# Altium integrated library Capacitors - Ceramic - 0402.IntLib: 4569 symbols (part 98 of 100)
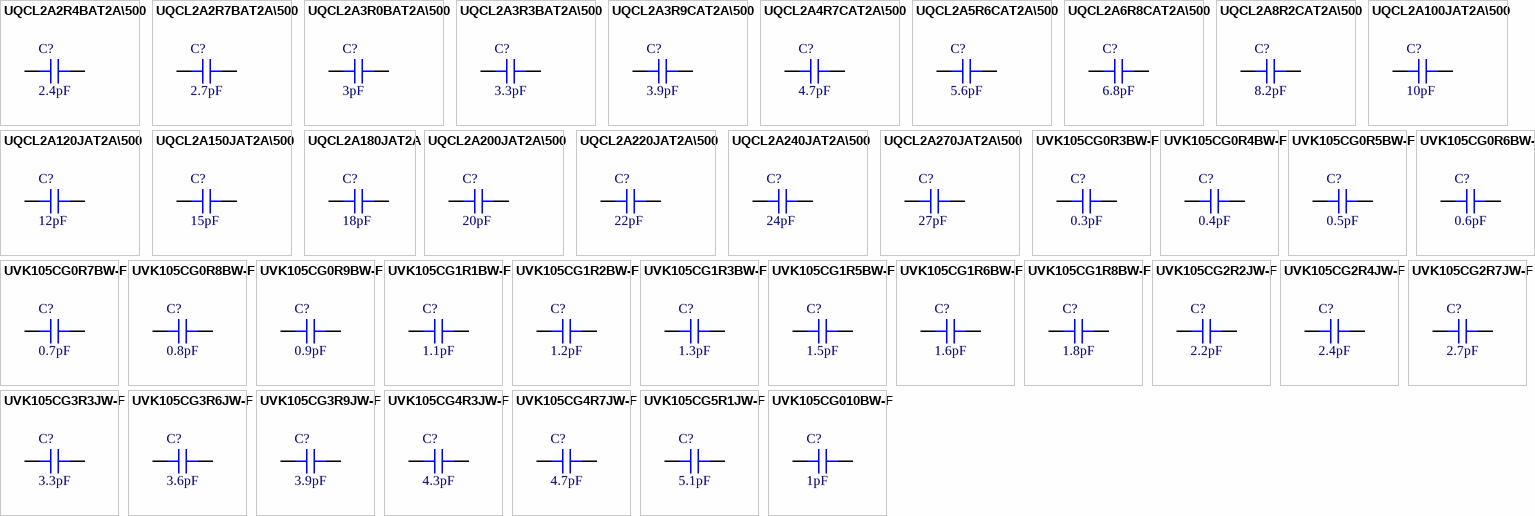
[diagram p211: symbols UQCL2A2R4BAT2A\500 to UVK105CG010BW-F]

## UQCL2A220JAT2A\500
designator C?, comment 22pF
CAP CER 22PF 200V 0402; Part Number: UQCL2A220JAT2A\500; Manufacturer: AVX Corporation; Temperature Coefficient: A; Tolerance: ±5%; Value: 22pF; Applications: RF, Microwave, High Frequency; Capacitance: 22pF; ComponentLink1Description: Datasheet; ComponentLink1URL: http://datasheets.avx.com/UQ-Series.pdf; ComponentLink2Description: DigiKey Link; ComponentLink2URL: http://digikey.com/product-detail/en/avx-corporation/UQCL2A220JAT2A-500/478-6423-1-ND/2512259; Device Package: 0402 (1005 Metric); Features: High Q, Low Loss; LastUpdated: 9/2/2020 1:02:06 AM; Lifecycle Status: Active; Minimum Order: 1; Mounting Type: Surface Mount, MLCC; Operating Temperature: -55°C ~ 125°C; Package / Case: 0402 (1005 Metric); Packaging: TapeAndReel; PartId: 9877; Part Status: Active; Price: 0.34; Series: UQ; Size / Dimension: 0.040" L x 0.020" W (1.02mm x 0.51mm); Supplier 1: DigiKey; Supplier Part Number 1: 478-6423-1-ND; Thickness (Max): 0.024" (0.60mm); Voltage - Rated: 200V
footprint CAP 0402_1005
pins: 1, 2

## UQCL2A240JAT2A\500
designator C?, comment 24pF
CAP CER 24PF 200V 0402; Part Number: UQCL2A240JAT2A\500; Manufacturer: AVX Corporation; Temperature Coefficient: A; Tolerance: ±5%; Value: 24pF; Applications: RF, Microwave, High Frequency; Capacitance: 24pF; ComponentLink1Description: Datasheet; ComponentLink1URL: http://datasheets.avx.com/UQ-Series.pdf; ComponentLink2Description: DigiKey Link; ComponentLink2URL: http://digikey.com/product-detail/en/avx-corporation/UQCL2A240JAT2A-500/478-6424-1-ND/2512260; Device Package: 0402 (1005 Metric); Features: High Q, Low Loss; LastUpdated: 9/2/2020 1:02:07 AM; Lifecycle Status: Active; Minimum Order: 1; Mounting Type: Surface Mount, MLCC; Operating Temperature: -55°C ~ 125°C; Package / Case: 0402 (1005 Metric); Packaging: TapeAndReel; PartId: 9496; Part Status: Active; Price: 0.34; Series: UQ; Size / Dimension: 0.040" L x 0.020" W (1.02mm x 0.51mm); Supplier 1: DigiKey; Supplier Part Number 1: 478-6424-1-ND; Thickness (Max): 0.024" (0.60mm); Voltage - Rated: 200V
footprint CAP 0402_1005
pins: 1, 2

## UQCL2A270JAT2A\500
designator C?, comment 27pF
CAP CER 27PF 200V 0402; Part Number: UQCL2A270JAT2A\500; Manufacturer: AVX Corporation; Temperature Coefficient: A; Tolerance: ±5%; Value: 27pF; Applications: RF, Microwave, High Frequency; Capacitance: 27pF; ComponentLink1Description: Datasheet; ComponentLink1URL: http://datasheets.avx.com/UQ-Series.pdf; ComponentLink2Description: DigiKey Link; ComponentLink2URL: http://digikey.com/product-detail/en/avx-corporation/UQCL2A270JAT2A-500/478-6425-1-ND/2512261; Device Package: 0402 (1005 Metric); Features: High Q, Low Loss; LastUpdated: 9/2/2020 1:02:14 AM; Lifecycle Status: Active; Minimum Order: 1; Mounting Type: Surface Mount, MLCC; Operating Temperature: -55°C ~ 125°C; Package / Case: 0402 (1005 Metric); Packaging: TapeAndReel; PartId: 6619; Part Status: Active; Price: 0.34; Series: UQ; Size / Dimension: 0.040" L x 0.020" W (1.02mm x 0.51mm); Supplier 1: DigiKey; Supplier Part Number 1: 478-6425-1-ND; Thickness (Max): 0.024" (0.60mm); Voltage - Rated: 200V
footprint CAP 0402_1005
pins: 1, 2

## UVK105CG0R3BW-F
designator C?, comment 0.3pF
CAP CER 0.30PF 50V C0G 0402; Part Number: UVK105CG0R3BW-F; Manufacturer: Taiyo Yuden; Temperature Coefficient: C0G, NP0; Tolerance: ±0.1pF; Value: 0.3pF; Applications: RF, Microwave, High Frequency; Capacitance: 0.3pF; ComponentLink1Description: Datasheet; ComponentLink1URL: https://ds.yuden.co.jp/TYCOMPAS/ut/detail?pn=UVK105CG0R3BW-F &u=M; ComponentLink2Description: DigiKey Link; ComponentLink2URL: http://digikey.com/product-detail/en/taiyo-yuden/UVK105CG0R3BW-F/587-5111-1-ND/6576530; Device Package: 0402 (1005 Metric); Features: High Q, Low Loss; LastUpdated: 9/2/2020 1:02:25 AM; Lifecycle Status: Active; Minimum Order: 1; Mounting Type: Surface Mount, MLCC; Operating Temperature: -55°C ~ 125°C; Package / Case: 0402 (1005 Metric); Packaging: TapeAndReel; PartId: 1829; Part Status: Active; Price: 0.04; Series: V; Size / Dimension: 0.039" L x 0.020" W (1.00mm x 0.50mm); Supplier 1: DigiKey; Supplier Part Number 1: 587-5111-1-ND; Thickness (Max): 0.022" (0.55mm); Voltage - Rated: 50V
footprint CAP 0402_1005
pins: 1, 2

## UVK105CG0R4BW-F
designator C?, comment 0.4pF
CAP CER 0.40PF 50V C0G 0402; Part Number: UVK105CG0R4BW-F; Manufacturer: Taiyo Yuden; Temperature Coefficient: C0G, NP0; Tolerance: ±0.1pF; Value: 0.4pF; Applications: RF, Microwave, High Frequency; Capacitance: 0.4pF; ComponentLink1Description: Datasheet; ComponentLink1URL: https://ds.yuden.co.jp/TYCOMPAS/ut/detail?pn=UVK105CG0R4BW-F &u=M; ComponentLink2Description: DigiKey Link; ComponentLink2URL: http://digikey.com/product-detail/en/taiyo-yuden/UVK105CG0R4BW-F/587-5112-1-ND/6576531; Device Package: 0402 (1005 Metric); Features: High Q, Low Loss; LastUpdated: 9/2/2020 1:02:25 AM; Lifecycle Status: Active; Minimum Order: 1; Mounting Type: Surface Mount, MLCC; Operating Temperature: -55°C ~ 125°C; Package / Case: 0402 (1005 Metric); Packaging: TapeAndReel; PartId: 1830; Part Status: Active; Price: 0.04; Series: V; Size / Dimension: 0.039" L x 0.020" W (1.00mm x 0.50mm); Supplier 1: DigiKey; Supplier Part Number 1: 587-5112-1-ND; Thickness (Max): 0.022" (0.55mm); Voltage - Rated: 50V
footprint CAP 0402_1005
pins: 1, 2

## UVK105CG0R5BW-F
designator C?, comment 0.5pF
CAP CER 0.50PF 50V C0G 0402; Part Number: UVK105CG0R5BW-F; Manufacturer: Taiyo Yuden; Temperature Coefficient: C0G, NP0; Tolerance: ±0.1pF; Value: 0.5pF; Applications: RF, Microwave, High Frequency; Capacitance: 0.5pF; ComponentLink1Description: Datasheet; ComponentLink1URL: https://ds.yuden.co.jp/TYCOMPAS/ut/detail?pn=UVK105CG0R5BW-F &u=M; ComponentLink2Description: DigiKey Link; ComponentLink2URL: http://digikey.com/product-detail/en/taiyo-yuden/UVK105CG0R5BW-F/587-5113-1-ND/6576532; Device Package: 0402 (1005 Metric); Features: High Q, Low Loss; LastUpdated: 9/2/2020 1:02:25 AM; Lifecycle Status: Active; Minimum Order: 1; Mounting Type: Surface Mount, MLCC; Operating Temperature: -55°C ~ 125°C; Package / Case: 0402 (1005 Metric); Packaging: TapeAndReel; PartId: 1841; Part Status: Active; Price: 0.04; Series: V; Size / Dimension: 0.039" L x 0.020" W (1.00mm x 0.50mm); Supplier 1: DigiKey; Supplier Part Number 1: 587-5113-1-ND; Thickness (Max): 0.022" (0.55mm); Voltage - Rated: 50V
footprint CAP 0402_1005
pins: 1, 2

## UVK105CG0R6BW-F
designator C?, comment 0.6pF
CAP CER 0.60PF 50V C0G 0402; Part Number: UVK105CG0R6BW-F; Manufacturer: Taiyo Yuden; Temperature Coefficient: C0G, NP0; Tolerance: ±0.1pF; Value: 0.6pF; Applications: RF, Microwave, High Frequency; Capacitance: 0.6pF; ComponentLink1Description: Datasheet; ComponentLink1URL: https://ds.yuden.co.jp/TYCOMPAS/ut/detail?pn=UVK105CG0R6BW-F &u=M; ComponentLink2Description: DigiKey Link; ComponentLink2URL: http://digikey.com/product-detail/en/taiyo-yuden/UVK105CG0R6BW-F/587-5114-1-ND/6576533; Device Package: 0402 (1005 Metric); Features: High Q, Low Loss; LastUpdated: 9/2/2020 1:02:25 AM; Lifecycle Status: Active; Minimum Order: 1; Mounting Type: Surface Mount, MLCC; Operating Temperature: -55°C ~ 125°C; Package / Case: 0402 (1005 Metric); Packaging: TapeAndReel; PartId: 1831; Part Status: Active; Price: 0.04; Series: V; Size / Dimension: 0.039" L x 0.020" W (1.00mm x 0.50mm); Supplier 1: DigiKey; Supplier Part Number 1: 587-5114-1-ND; Thickness (Max): 0.022" (0.55mm); Voltage - Rated: 50V
footprint CAP 0402_1005
pins: 1, 2

## UVK105CG0R7BW-F
designator C?, comment 0.7pF
CAP CER 0.70PF 50V C0G 0402; Part Number: UVK105CG0R7BW-F; Manufacturer: Taiyo Yuden; Temperature Coefficient: C0G, NP0; Tolerance: ±0.1pF; Value: 0.7pF; Applications: RF, Microwave, High Frequency; Capacitance: 0.7pF; ComponentLink1Description: Datasheet; ComponentLink1URL: https://ds.yuden.co.jp/TYCOMPAS/ut/detail?pn=UVK105CG0R7BW-F &u=M; ComponentLink2Description: DigiKey Link; ComponentLink2URL: http://digikey.com/product-detail/en/taiyo-yuden/UVK105CG0R7BW-F/587-5115-1-ND/6576534; Device Package: 0402 (1005 Metric); Features: High Q, Low Loss; LastUpdated: 9/2/2020 1:02:25 AM; Lifecycle Status: Active; Minimum Order: 1; Mounting Type: Surface Mount, MLCC; Operating Temperature: -55°C ~ 125°C; Package / Case: 0402 (1005 Metric); Packaging: TapeAndReel; PartId: 1832; Part Status: Active; Price: 0.04; Series: V; Size / Dimension: 0.039" L x 0.020" W (1.00mm x 0.50mm); Supplier 1: DigiKey; Supplier Part Number 1: 587-5115-1-ND; Thickness (Max): 0.022" (0.55mm); Voltage - Rated: 50V
footprint CAP 0402_1005
pins: 1, 2

## UVK105CG0R8BW-F
designator C?, comment 0.8pF
CAP CER 0.80PF 50V C0G 0402; Part Number: UVK105CG0R8BW-F; Manufacturer: Taiyo Yuden; Temperature Coefficient: C0G, NP0; Tolerance: ±0.1pF; Value: 0.8pF; Applications: RF, Microwave, High Frequency; Capacitance: 0.8pF; ComponentLink1Description: Datasheet; ComponentLink1URL: https://ds.yuden.co.jp/TYCOMPAS/ut/detail?pn=UVK105CG0R8BW-F &u=M; ComponentLink2Description: DigiKey Link; ComponentLink2URL: http://digikey.com/product-detail/en/taiyo-yuden/UVK105CG0R8BW-F/587-5116-1-ND/6576535; Device Package: 0402 (1005 Metric); Features: High Q, Low Loss; LastUpdated: 9/2/2020 1:02:25 AM; Lifecycle Status: Active; Minimum Order: 1; Mounting Type: Surface Mount, MLCC; Operating Temperature: -55°C ~ 125°C; Package / Case: 0402 (1005 Metric); Packaging: TapeAndReel; PartId: 1842; Part Status: Active; Price: 0.04; Series: V; Size / Dimension: 0.039" L x 0.020" W (1.00mm x 0.50mm); Supplier 1: DigiKey; Supplier Part Number 1: 587-5116-1-ND; Thickness (Max): 0.022" (0.55mm); Voltage - Rated: 50V
footprint CAP 0402_1005
pins: 1, 2

## UVK105CG0R9BW-F
designator C?, comment 0.9pF
CAP CER 0.90PF 50V C0G 0402; Part Number: UVK105CG0R9BW-F; Manufacturer: Taiyo Yuden; Temperature Coefficient: C0G, NP0; Tolerance: ±0.1pF; Value: 0.9pF; Applications: RF, Microwave, High Frequency; Capacitance: 0.9pF; ComponentLink1Description: Datasheet; ComponentLink1URL: https://ds.yuden.co.jp/TYCOMPAS/ut/detail?pn=UVK105CG0R9BW-F &u=M; ComponentLink2Description: DigiKey Link; ComponentLink2URL: http://digikey.com/product-detail/en/taiyo-yuden/UVK105CG0R9BW-F/587-5117-1-ND/6576536; Device Package: 0402 (1005 Metric); Features: High Q, Low Loss; LastUpdated: 9/2/2020 1:02:25 AM; Lifecycle Status: Active; Minimum Order: 1; Mounting Type: Surface Mount, MLCC; Operating Temperature: -55°C ~ 125°C; Package / Case: 0402 (1005 Metric); Packaging: TapeAndReel; PartId: 1833; Part Status: Active; Price: 0.04; Series: V; Size / Dimension: 0.039" L x 0.020" W (1.00mm x 0.50mm); Supplier 1: DigiKey; Supplier Part Number 1: 587-5117-1-ND; Thickness (Max): 0.022" (0.55mm); Voltage - Rated: 50V
footprint CAP 0402_1005
pins: 1, 2

## UVK105CG1R1BW-F
designator C?, comment 1.1pF
CAP CER 1.1PF 50V C0G 0402; Part Number: UVK105CG1R1BW-F; Manufacturer: Taiyo Yuden; Temperature Coefficient: C0G, NP0; Tolerance: ±0.1pF; Value: 1.1pF; Applications: RF, Microwave, High Frequency; Capacitance: 1.1pF; ComponentLink1Description: Datasheet; ComponentLink1URL: https://ds.yuden.co.jp/TYCOMPAS/ut/detail?pn=UVK105CG1R1BW-F &u=M; ComponentLink2Description: DigiKey Link; ComponentLink2URL: http://digikey.com/product-detail/en/taiyo-yuden/UVK105CG1R1BW-F/587-5119-1-ND/6576538; Device Package: 0402 (1005 Metric); Features: High Q, Low Loss; LastUpdated: 9/2/2020 1:02:25 AM; Lifecycle Status: Active; Minimum Order: 1; Mounting Type: Surface Mount, MLCC; Operating Temperature: -55°C ~ 125°C; Package / Case: 0402 (1005 Metric); Packaging: TapeAndReel; PartId: 1843; Part Status: Active; Price: 0.04; Series: V; Size / Dimension: 0.039" L x 0.020" W (1.00mm x 0.50mm); Supplier 1: DigiKey; Supplier Part Number 1: 587-5119-1-ND; Thickness (Max): 0.022" (0.55mm); Voltage - Rated: 50V
footprint CAP 0402_1005
pins: 1, 2

## UVK105CG1R2BW-F
designator C?, comment 1.2pF
CAP CER 1.2PF 50V C0G 0402; Part Number: UVK105CG1R2BW-F; Manufacturer: Taiyo Yuden; Temperature Coefficient: C0G, NP0; Tolerance: ±0.1pF; Value: 1.2pF; Applications: RF, Microwave, High Frequency; Capacitance: 1.2pF; ComponentLink1Description: Datasheet; ComponentLink1URL: https://ds.yuden.co.jp/TYCOMPAS/ut/detail?pn=UVK105CG1R2BW-F &u=M; ComponentLink2Description: DigiKey Link; ComponentLink2URL: http://digikey.com/product-detail/en/taiyo-yuden/UVK105CG1R2BW-F/587-5120-1-ND/6576539; Device Package: 0402 (1005 Metric); Features: High Q, Low Loss; LastUpdated: 9/2/2020 1:02:22 AM; Lifecycle Status: Active; Minimum Order: 1; Mounting Type: Surface Mount, MLCC; Operating Temperature: -55°C ~ 125°C; Package / Case: 0402 (1005 Metric); Packaging: TapeAndReel; PartId: 2416; Part Status: Active; Price: 0.04; Series: V; Size / Dimension: 0.039" L x 0.020" W (1.00mm x 0.50mm); Supplier 1: DigiKey; Supplier Part Number 1: 587-5120-1-ND; Thickness (Max): 0.022" (0.55mm); Voltage - Rated: 50V
footprint CAP 0402_1005
pins: 1, 2

## UVK105CG1R3BW-F
designator C?, comment 1.3pF
CAP CER 1.3PF 50V C0G 0402; Part Number: UVK105CG1R3BW-F; Manufacturer: Taiyo Yuden; Temperature Coefficient: C0G, NP0; Tolerance: ±0.1pF; Value: 1.3pF; Applications: RF, Microwave, High Frequency; Capacitance: 1.3pF; ComponentLink1Description: Datasheet; ComponentLink1URL: https://ds.yuden.co.jp/TYCOMPAS/ut/detail?pn=UVK105CG1R3BW-F &u=M; ComponentLink2Description: DigiKey Link; ComponentLink2URL: http://digikey.com/product-detail/en/taiyo-yuden/UVK105CG1R3BW-F/587-5121-1-ND/6576540; Device Package: 0402 (1005 Metric); Features: High Q, Low Loss; LastUpdated: 9/2/2020 1:02:25 AM; Lifecycle Status: Active; Minimum Order: 1; Mounting Type: Surface Mount, MLCC; Operating Temperature: -55°C ~ 125°C; Package / Case: 0402 (1005 Metric); Packaging: TapeAndReel; PartId: 1834; Part Status: Active; Price: 0.04; Series: V; Size / Dimension: 0.039" L x 0.020" W (1.00mm x 0.50mm); Supplier 1: DigiKey; Supplier Part Number 1: 587-5121-1-ND; Thickness (Max): 0.022" (0.55mm); Voltage - Rated: 50V
footprint CAP 0402_1005
pins: 1, 2

## UVK105CG1R5BW-F
designator C?, comment 1.5pF
CAP CER 1.5PF 50V C0G 0402; Part Number: UVK105CG1R5BW-F; Manufacturer: Taiyo Yuden; Temperature Coefficient: C0G, NP0; Tolerance: ±0.1pF; Value: 1.5pF; Applications: RF, Microwave, High Frequency; Capacitance: 1.5pF; ComponentLink1Description: Datasheet; ComponentLink1URL: https://ds.yuden.co.jp/TYCOMPAS/ut/detail?pn=UVK105CG1R5BW-F &u=M; ComponentLink2Description: DigiKey Link; ComponentLink2URL: http://digikey.com/product-detail/en/taiyo-yuden/UVK105CG1R5BW-F/587-5122-1-ND/6576541; Device Package: 0402 (1005 Metric); Features: High Q, Low Loss; LastUpdated: 9/2/2020 1:02:22 AM; Lifecycle Status: Active; Minimum Order: 1; Mounting Type: Surface Mount, MLCC; Operating Temperature: -55°C ~ 125°C; Package / Case: 0402 (1005 Metric); Packaging: TapeAndReel; PartId: 2408; Part Status: Active; Price: 0.04; Series: V; Size / Dimension: 0.039" L x 0.020" W (1.00mm x 0.50mm); Supplier 1: DigiKey; Supplier Part Number 1: 587-5122-1-ND; Thickness (Max): 0.022" (0.55mm); Voltage - Rated: 50V
footprint CAP 0402_1005
pins: 1, 2

## UVK105CG1R6BW-F
designator C?, comment 1.6pF
CAP CER 1.6PF 50V C0G 0402; Part Number: UVK105CG1R6BW-F; Manufacturer: Taiyo Yuden; Temperature Coefficient: C0G, NP0; Tolerance: ±0.1pF; Value: 1.6pF; Applications: RF, Microwave, High Frequency; Capacitance: 1.6pF; ComponentLink1Description: Datasheet; ComponentLink1URL: https://ds.yuden.co.jp/TYCOMPAS/ut/detail?pn=UVK105CG1R6BW-F &u=M; ComponentLink2Description: DigiKey Link; ComponentLink2URL: http://digikey.com/product-detail/en/taiyo-yuden/UVK105CG1R6BW-F/587-5123-1-ND/6576542; Device Package: 0402 (1005 Metric); Features: High Q, Low Loss; LastUpdated: 9/2/2020 1:02:25 AM; Lifecycle Status: Active; Minimum Order: 1; Mounting Type: Surface Mount, MLCC; Operating Temperature: -55°C ~ 125°C; Package / Case: 0402 (1005 Metric); Packaging: TapeAndReel; PartId: 1835; Part Status: Active; Price: 0.04; Series: V; Size / Dimension: 0.039" L x 0.020" W (1.00mm x 0.50mm); Supplier 1: DigiKey; Supplier Part Number 1: 587-5123-1-ND; Thickness (Max): 0.022" (0.55mm); Voltage - Rated: 50V
footprint CAP 0402_1005
pins: 1, 2

## UVK105CG1R8BW-F
designator C?, comment 1.8pF
CAP CER 1.8PF 50V C0G 0402; Part Number: UVK105CG1R8BW-F; Manufacturer: Taiyo Yuden; Temperature Coefficient: C0G, NP0; Tolerance: ±0.1pF; Value: 1.8pF; Applications: RF, Microwave, High Frequency; Capacitance: 1.8pF; ComponentLink1Description: Datasheet; ComponentLink1URL: https://ds.yuden.co.jp/TYCOMPAS/ut/detail?pn=UVK105CG1R8BW-F &u=M; ComponentLink2Description: DigiKey Link; ComponentLink2URL: http://digikey.com/product-detail/en/taiyo-yuden/UVK105CG1R8BW-F/587-5124-1-ND/6576543; Device Package: 0402 (1005 Metric); Features: High Q, Low Loss; LastUpdated: 9/2/2020 1:02:25 AM; Lifecycle Status: Active; Minimum Order: 1; Mounting Type: Surface Mount, MLCC; Operating Temperature: -55°C ~ 125°C; Package / Case: 0402 (1005 Metric); Packaging: TapeAndReel; PartId: 1836; Part Status: Active; Price: 0.04; Series: V; Size / Dimension: 0.039" L x 0.020" W (1.00mm x 0.50mm); Supplier 1: DigiKey; Supplier Part Number 1: 587-5124-1-ND; Thickness (Max): 0.022" (0.55mm); Voltage - Rated: 50V
footprint CAP 0402_1005
pins: 1, 2

## UVK105CG2R2JW-F
designator C?, comment 2.2pF
CAP CER 2.2PF 50V C0G 0402; Part Number: UVK105CG2R2JW-F; Manufacturer: Taiyo Yuden; Temperature Coefficient: C0G, NP0; Tolerance: ±5%; Value: 2.2pF; Applications: RF, Microwave, High Frequency; Capacitance: 2.2pF; ComponentLink1Description: Datasheet; ComponentLink1URL: https://ds.yuden.co.jp/TYCOMPAS/ut/detail?pn=UVK105CG2R2JW-F &u=M; ComponentLink2Description: DigiKey Link; ComponentLink2URL: http://digikey.com/product-detail/en/taiyo-yuden/UVK105CG2R2JW-F/587-5126-1-ND/6576545; Device Package: 0402 (1005 Metric); Features: High Q, Low Loss; LastUpdated: 9/2/2020 1:02:19 AM; Lifecycle Status: Active; Minimum Order: 1; Mounting Type: Surface Mount, MLCC; Operating Temperature: -55°C ~ 125°C; Package / Case: 0402 (1005 Metric); Packaging: TapeAndReel; PartId: 4277; Part Status: Active; Price: 0.04; Series: V; Size / Dimension: 0.039" L x 0.020" W (1.00mm x 0.50mm); Supplier 1: DigiKey; Supplier Part Number 1: 587-5126-1-ND; Thickness (Max): 0.022" (0.55mm); Voltage - Rated: 50V
footprint CAP 0402_1005
pins: 1, 2

## UVK105CG2R4JW-F
designator C?, comment 2.4pF
CAP CER 2.4PF 50V C0G 0402; Part Number: UVK105CG2R4JW-F; Manufacturer: Taiyo Yuden; Temperature Coefficient: C0G, NP0; Tolerance: ±5%; Value: 2.4pF; Applications: RF, Microwave, High Frequency; Capacitance: 2.4pF; ComponentLink1Description: Datasheet; ComponentLink1URL: https://ds.yuden.co.jp/TYCOMPAS/ut/detail?pn=UVK105CG2R4JW-F &u=M; ComponentLink2Description: DigiKey Link; ComponentLink2URL: http://digikey.com/product-detail/en/taiyo-yuden/UVK105CG2R4JW-F/587-5127-1-ND/6576546; Device Package: 0402 (1005 Metric); Features: High Q, Low Loss; LastUpdated: 9/2/2020 1:02:25 AM; Lifecycle Status: Active; Minimum Order: 1; Mounting Type: Surface Mount, MLCC; Operating Temperature: -55°C ~ 125°C; Package / Case: 0402 (1005 Metric); Packaging: TapeAndReel; PartId: 1827; Part Status: Active; Price: 0.04; Series: V; Size / Dimension: 0.039" L x 0.020" W (1.00mm x 0.50mm); Supplier 1: DigiKey; Supplier Part Number 1: 587-5127-1-ND; Thickness (Max): 0.022" (0.55mm); Voltage - Rated: 50V
footprint CAP 0402_1005
pins: 1, 2

## UVK105CG2R7JW-F
designator C?, comment 2.7pF
CAP CER 2.7PF 50V C0G 0402; Part Number: UVK105CG2R7JW-F; Manufacturer: Taiyo Yuden; Temperature Coefficient: C0G, NP0; Tolerance: ±5%; Value: 2.7pF; Applications: RF, Microwave, High Frequency; Capacitance: 2.7pF; ComponentLink1Description: Datasheet; ComponentLink1URL: https://ds.yuden.co.jp/TYCOMPAS/ut/detail?pn=UVK105CG2R7JW-F &u=M; ComponentLink2Description: DigiKey Link; ComponentLink2URL: http://digikey.com/product-detail/en/taiyo-yuden/UVK105CG2R7JW-F/587-5128-1-ND/6576547; Device Package: 0402 (1005 Metric); Features: High Q, Low Loss; LastUpdated: 9/2/2020 1:02:25 AM; Lifecycle Status: Active; Minimum Order: 1; Mounting Type: Surface Mount, MLCC; Operating Temperature: -55°C ~ 125°C; Package / Case: 0402 (1005 Metric); Packaging: TapeAndReel; PartId: 1826; Part Status: Active; Price: 0.04; Series: V; Size / Dimension: 0.039" L x 0.020" W (1.00mm x 0.50mm); Supplier 1: DigiKey; Supplier Part Number 1: 587-5128-1-ND; Thickness (Max): 0.022" (0.55mm); Voltage - Rated: 50V
footprint CAP 0402_1005
pins: 1, 2

## UVK105CG3R3JW-F
designator C?, comment 3.3pF
CAP CER 3.3PF 50V C0G 0402; Part Number: UVK105CG3R3JW-F; Manufacturer: Taiyo Yuden; Temperature Coefficient: C0G, NP0; Tolerance: ±5%; Value: 3.3pF; Applications: RF, Microwave, High Frequency; Capacitance: 3.3pF; ComponentLink1Description: Datasheet; ComponentLink1URL: https://ds.yuden.co.jp/TYCOMPAS/ut/detail?pn=UVK105CG3R3JW-F &u=M; ComponentLink2Description: DigiKey Link; ComponentLink2URL: http://digikey.com/product-detail/en/taiyo-yuden/UVK105CG3R3JW-F/587-5130-1-ND/6576549; Device Package: 0402 (1005 Metric); Features: High Q, Low Loss; LastUpdated: 9/2/2020 1:02:25 AM; Lifecycle Status: Active; Minimum Order: 1; Mounting Type: Surface Mount, MLCC; Operating Temperature: -55°C ~ 125°C; Package / Case: 0402 (1005 Metric); Packaging: TapeAndReel; PartId: 1839; Part Status: Active; Price: 0.04; Series: V; Size / Dimension: 0.039" L x 0.020" W (1.00mm x 0.50mm); Supplier 1: DigiKey; Supplier Part Number 1: 587-5130-1-ND; Thickness (Max): 0.022" (0.55mm); Voltage - Rated: 50V
footprint CAP 0402_1005
pins: 1, 2

## UVK105CG3R6JW-F
designator C?, comment 3.6pF
CAP CER 3.6PF 50V C0G 0402; Part Number: UVK105CG3R6JW-F; Manufacturer: Taiyo Yuden; Temperature Coefficient: C0G, NP0; Tolerance: ±5%; Value: 3.6pF; Applications: RF, Microwave, High Frequency; Capacitance: 3.6pF; ComponentLink1Description: Datasheet; ComponentLink1URL: https://ds.yuden.co.jp/TYCOMPAS/ut/detail?pn=UVK105CG3R6JW-F &u=M; ComponentLink2Description: DigiKey Link; ComponentLink2URL: http://digikey.com/product-detail/en/taiyo-yuden/UVK105CG3R6JW-F/587-5131-1-ND/6576550; Device Package: 0402 (1005 Metric); Features: High Q, Low Loss; LastUpdated: 9/2/2020 1:02:25 AM; Lifecycle Status: Active; Minimum Order: 1; Mounting Type: Surface Mount, MLCC; Operating Temperature: -55°C ~ 125°C; Package / Case: 0402 (1005 Metric); Packaging: TapeAndReel; PartId: 1840; Part Status: Active; Price: 0.04; Series: V; Size / Dimension: 0.039" L x 0.020" W (1.00mm x 0.50mm); Supplier 1: DigiKey; Supplier Part Number 1: 587-5131-1-ND; Thickness (Max): 0.022" (0.55mm); Voltage - Rated: 50V
footprint CAP 0402_1005
pins: 1, 2

## UVK105CG3R9JW-F
designator C?, comment 3.9pF
CAP CER 3.9PF 50V C0G 0402; Part Number: UVK105CG3R9JW-F; Manufacturer: Taiyo Yuden; Temperature Coefficient: C0G, NP0; Tolerance: ±5%; Value: 3.9pF; Applications: RF, Microwave, High Frequency; Capacitance: 3.9pF; ComponentLink1Description: Datasheet; ComponentLink1URL: https://ds.yuden.co.jp/TYCOMPAS/ut/detail?pn=UVK105CG3R9JW-F &u=M; ComponentLink2Description: DigiKey Link; ComponentLink2URL: http://digikey.com/product-detail/en/taiyo-yuden/UVK105CG3R9JW-F/587-5132-1-ND/6576551; Device Package: 0402 (1005 Metric); Features: High Q, Low Loss; LastUpdated: 9/2/2020 1:02:25 AM; Lifecycle Status: Active; Minimum Order: 1; Mounting Type: Surface Mount, MLCC; Operating Temperature: -55°C ~ 125°C; Package / Case: 0402 (1005 Metric); Packaging: TapeAndReel; PartId: 1828; Part Status: Active; Price: 0.04; Series: V; Size / Dimension: 0.039" L x 0.020" W (1.00mm x 0.50mm); Supplier 1: DigiKey; Supplier Part Number 1: 587-5132-1-ND; Thickness (Max): 0.022" (0.55mm); Voltage - Rated: 50V
footprint CAP 0402_1005
pins: 1, 2

## UVK105CG4R3JW-F
designator C?, comment 4.3pF
CAP CER 4.3PF 50V C0G 0402; Part Number: UVK105CG4R3JW-F; Manufacturer: Taiyo Yuden; Temperature Coefficient: C0G, NP0; Tolerance: ±5%; Value: 4.3pF; Applications: RF, Microwave, High Frequency; Capacitance: 4.3pF; ComponentLink1Description: Datasheet; ComponentLink1URL: https://ds.yuden.co.jp/TYCOMPAS/ut/detail?pn=UVK105CG4R3JW-F &u=M; ComponentLink2Description: DigiKey Link; ComponentLink2URL: http://digikey.com/product-detail/en/taiyo-yuden/UVK105CG4R3JW-F/587-5133-1-ND/6576552; Device Package: 0402 (1005 Metric); Features: High Q, Low Loss; LastUpdated: 9/2/2020 1:02:25 AM; Lifecycle Status: Active; Minimum Order: 1; Mounting Type: Surface Mount, MLCC; Operating Temperature: -55°C ~ 125°C; Package / Case: 0402 (1005 Metric); Packaging: TapeAndReel; PartId: 1844; Part Status: Active; Price: 0.04; Series: V; Size / Dimension: 0.039" L x 0.020" W (1.00mm x 0.50mm); Supplier 1: DigiKey; Supplier Part Number 1: 587-5133-1-ND; Thickness (Max): 0.022" (0.55mm); Voltage - Rated: 50V
footprint CAP 0402_1005
pins: 1, 2

## UVK105CG4R7JW-F
designator C?, comment 4.7pF
CAP CER 4.7PF 50V C0G 0402; Part Number: UVK105CG4R7JW-F; Manufacturer: Taiyo Yuden; Temperature Coefficient: C0G, NP0; Tolerance: ±5%; Value: 4.7pF; Applications: RF, Microwave, High Frequency; Capacitance: 4.7pF; ComponentLink1Description: Datasheet; ComponentLink1URL: https://ds.yuden.co.jp/TYCOMPAS/ut/detail?pn=UVK105CG4R7JW-F &u=M; ComponentLink2Description: DigiKey Link; ComponentLink2URL: http://digikey.com/product-detail/en/taiyo-yuden/UVK105CG4R7JW-F/587-5134-1-ND/6576553; Device Package: 0402 (1005 Metric); Features: High Q, Low Loss; LastUpdated: 9/2/2020 1:02:19 AM; Lifecycle Status: Active; Minimum Order: 1; Mounting Type: Surface Mount, MLCC; Operating Temperature: -55°C ~ 125°C; Package / Case: 0402 (1005 Metric); Packaging: TapeAndReel; PartId: 4274; Part Status: Active; Price: 0.04; Series: V; Size / Dimension: 0.039" L x 0.020" W (1.00mm x 0.50mm); Supplier 1: DigiKey; Supplier Part Number 1: 587-5134-1-ND; Thickness (Max): 0.022" (0.55mm); Voltage - Rated: 50V
footprint CAP 0402_1005
pins: 1, 2

## UVK105CG5R1JW-F
designator C?, comment 5.1pF
CAP CER 5.1PF 50V C0G 0402; Part Number: UVK105CG5R1JW-F; Manufacturer: Taiyo Yuden; Temperature Coefficient: C0G, NP0; Tolerance: ±5%; Value: 5.1pF; Applications: RF, Microwave, High Frequency; Capacitance: 5.1pF; ComponentLink1Description: Datasheet; ComponentLink1URL: https://ds.yuden.co.jp/TYCOMPAS/ut/detail?pn=UVK105CG5R1JW-F &u=M; ComponentLink2Description: DigiKey Link; ComponentLink2URL: http://digikey.com/product-detail/en/taiyo-yuden/UVK105CG5R1JW-F/587-5135-1-ND/6576554; Device Package: 0402 (1005 Metric); Features: High Q, Low Loss; LastUpdated: 9/2/2020 1:02:22 AM; Lifecycle Status: Active; Minimum Order: 1; Mounting Type: Surface Mount, MLCC; Operating Temperature: -55°C ~ 125°C; Package / Case: 0402 (1005 Metric); Packaging: TapeAndReel; PartId: 2410; Part Status: Active; Price: 0.04; Series: V; Size / Dimension: 0.039" L x 0.020" W (1.00mm x 0.50mm); Supplier 1: DigiKey; Supplier Part Number 1: 587-5135-1-ND; Thickness (Max): 0.022" (0.55mm); Voltage - Rated: 50V
footprint CAP 0402_1005
pins: 1, 2

## UVK105CG010BW-F
designator C?, comment 1pF
CAP CER 1PF 50V C0G 0402; Part Number: UVK105CG010BW-F; Manufacturer: Taiyo Yuden; Temperature Coefficient: C0G, NP0; Tolerance: ±0.1pF; Value: 1pF; Applications: RF, Microwave, High Frequency; Capacitance: 1pF; ComponentLink1Description: Datasheet; ComponentLink1URL: https://ds.yuden.co.jp/TYCOMPAS/ut/detail?pn=UVK105CG010BW-F &u=M; ComponentLink2Description: DigiKey Link; ComponentLink2URL: http://digikey.com/product-detail/en/taiyo-yuden/UVK105CG010BW-F/587-5118-1-ND/6576537; Device Package: 0402 (1005 Metric); Features: High Q, Low Loss; LastUpdated: 9/2/2020 1:02:25 AM; Lifecycle Status: Active; Minimum Order: 1; Mounting Type: Surface Mount, MLCC; Operating Temperature: -55°C ~ 125°C; Package / Case: 0402 (1005 Metric); Packaging: TapeAndReel; PartId: 1817; Part Status: Active; Price: 0.04; Series: V; Size / Dimension: 0.039" L x 0.020" W (1.00mm x 0.50mm); Supplier 1: DigiKey; Supplier Part Number 1: 587-5118-1-ND; Thickness (Max): 0.022" (0.55mm); Voltage - Rated: 50V
footprint CAP 0402_1005
pins: 1, 2

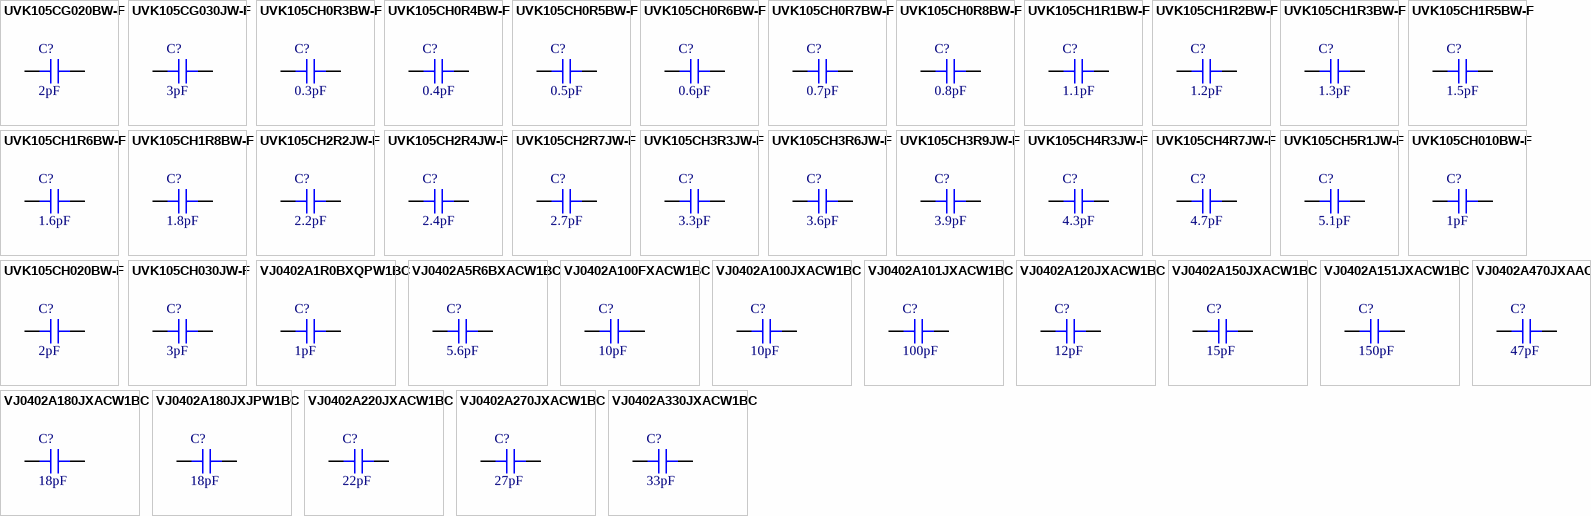
[diagram p112: symbols UVK105CG020BW-F to VJ0402A470JXAAC]

## UVK105CG020BW-F
designator C?, comment 2pF
CAP CER 2PF 50V C0G 0402; Part Number: UVK105CG020BW-F; Manufacturer: Taiyo Yuden; Temperature Coefficient: C0G, NP0; Tolerance: ±0.1pF; Value: 2pF; Applications: RF, Microwave, High Frequency; Capacitance: 2pF; ComponentLink1Description: Datasheet; ComponentLink1URL: https://ds.yuden.co.jp/TYCOMPAS/ut/detail?pn=UVK105CG020BW-F &u=M; ComponentLink2Description: DigiKey Link; ComponentLink2URL: http://digikey.com/product-detail/en/taiyo-yuden/UVK105CG020BW-F/587-5125-1-ND/6576544; Device Package: 0402 (1005 Metric); Features: High Q, Low Loss; LastUpdated: 9/2/2020 1:02:25 AM; Lifecycle Status: Active; Minimum Order: 1; Mounting Type: Surface Mount, MLCC; Operating Temperature: -55°C ~ 125°C; Package / Case: 0402 (1005 Metric); Packaging: TapeAndReel; PartId: 1837; Part Status: Active; Price: 0.04; Series: V; Size / Dimension: 0.039" L x 0.020" W (1.00mm x 0.50mm); Supplier 1: DigiKey; Supplier Part Number 1: 587-5125-1-ND; Thickness (Max): 0.022" (0.55mm); Voltage - Rated: 50V
footprint CAP 0402_1005
pins: 1, 2

## UVK105CG030JW-F
designator C?, comment 3pF
CAP CER 3PF 50V C0G 0402; Part Number: UVK105CG030JW-F; Manufacturer: Taiyo Yuden; Temperature Coefficient: C0G, NP0; Tolerance: ±5%; Value: 3pF; Applications: RF, Microwave, High Frequency; Capacitance: 3pF; ComponentLink1Description: Datasheet; ComponentLink1URL: https://ds.yuden.co.jp/TYCOMPAS/ut/detail?pn=UVK105CG030JW-F &u=M; ComponentLink2Description: DigiKey Link; ComponentLink2URL: http://digikey.com/product-detail/en/taiyo-yuden/UVK105CG030JW-F/587-5129-1-ND/6576548; Device Package: 0402 (1005 Metric); Features: High Q, Low Loss; LastUpdated: 9/2/2020 1:02:25 AM; Lifecycle Status: Active; Minimum Order: 1; Mounting Type: Surface Mount, MLCC; Operating Temperature: -55°C ~ 125°C; Package / Case: 0402 (1005 Metric); Packaging: TapeAndReel; PartId: 1838; Part Status: Active; Price: 0.04; Series: V; Size / Dimension: 0.039" L x 0.020" W (1.00mm x 0.50mm); Supplier 1: DigiKey; Supplier Part Number 1: 587-5129-1-ND; Thickness (Max): 0.022" (0.55mm); Voltage - Rated: 50V
footprint CAP 0402_1005
pins: 1, 2

## UVK105CH0R3BW-F
designator C?, comment 0.3pF
CAP CER 0.3PF 50V C0H 0402; Part Number: UVK105CH0R3BW-F; Manufacturer: Taiyo Yuden; Tolerance: ±0.1pF; Value: 0.3pF; Applications: RF, Microwave, High Frequency; Capacitance: 0.3pF; ComponentLink1Description: Datasheet; ComponentLink1URL: https://www.yuden.co.jp/productdata/catalog/mlcc04_e.pdf; ComponentLink2Description: DigiKey Link; ComponentLink2URL: http://digikey.com/product-detail/en/taiyo-yuden/UVK105CH0R3BW-F/587-1000-1-ND/930777; Device Package: 0402 (1005 Metric); Features: High Q, Low Loss; LastUpdated: 9/2/2020 1:02:14 AM; Lifecycle Status: Active; Minimum Order: 1; Mounting Type: Surface Mount, MLCC; Operating Temperature: -55°C ~ 125°C; Package / Case: 0402 (1005 Metric); Packaging: TapeAndReel; PartId: 6481; Part Status: Active; Price: 0.03; Series: UVK; Size / Dimension: 0.039" L x 0.020" W (1.00mm x 0.50mm); Supplier 1: DigiKey; Supplier Part Number 1: 587-1000-1-ND; Temperature Coefficient: C0H; Thickness (Max): 0.022" (0.55mm); Voltage - Rated: 50V
footprint CAP 0402_1005
pins: 1, 2

## UVK105CH0R4BW-F
designator C?, comment 0.4pF
CAP CER 0.4PF 50V C0H 0402; Part Number: UVK105CH0R4BW-F; Manufacturer: Taiyo Yuden; Tolerance: ±0.1pF; Value: 0.4pF; Applications: RF, Microwave, High Frequency; Capacitance: 0.4pF; ComponentLink1Description: Datasheet; ComponentLink1URL: https://www.yuden.co.jp/productdata/catalog/mlcc04_e.pdf; ComponentLink2Description: DigiKey Link; ComponentLink2URL: http://digikey.com/product-detail/en/taiyo-yuden/UVK105CH0R4BW-F/587-1001-1-ND/930778; Device Package: 0402 (1005 Metric); Features: High Q, Low Loss; LastUpdated: 9/2/2020 1:02:14 AM; Lifecycle Status: Active; Minimum Order: 1; Mounting Type: Surface Mount, MLCC; Operating Temperature: -55°C ~ 125°C; Package / Case: 0402 (1005 Metric); Packaging: TapeAndReel; PartId: 6503; Part Status: Active; Price: 0.03; Series: UVK; Size / Dimension: 0.039" L x 0.020" W (1.00mm x 0.50mm); Supplier 1: DigiKey; Supplier Part Number 1: 587-1001-1-ND; Temperature Coefficient: C0H; Thickness (Max): 0.022" (0.55mm); Voltage - Rated: 50V
footprint CAP 0402_1005
pins: 1, 2

## UVK105CH0R5BW-F
designator C?, comment 0.5pF
CAP CER 0.5PF 50V C0H 0402; Part Number: UVK105CH0R5BW-F; Manufacturer: Taiyo Yuden; Tolerance: ±0.1pF; Value: 0.5pF; Applications: RF, Microwave, High Frequency; Capacitance: 0.5pF; ComponentLink1Description: Datasheet; ComponentLink1URL: https://www.yuden.co.jp/productdata/catalog/mlcc04_e.pdf; ComponentLink2Description: DigiKey Link; ComponentLink2URL: http://digikey.com/product-detail/en/taiyo-yuden/UVK105CH0R5BW-F/587-1002-1-ND/930779; Device Package: 0402 (1005 Metric); Features: High Q, Low Loss; LastUpdated: 9/2/2020 1:02:23 AM; Lifecycle Status: Active; Minimum Order: 1; Mounting Type: Surface Mount, MLCC; Operating Temperature: -55°C ~ 125°C; Package / Case: 0402 (1005 Metric); Packaging: TapeAndReel; PartId: 2345; Part Status: Active; Price: 0.03; Series: UVK; Size / Dimension: 0.039" L x 0.020" W (1.00mm x 0.50mm); Supplier 1: DigiKey; Supplier Part Number 1: 587-1002-1-ND; Temperature Coefficient: C0H; Thickness (Max): 0.022" (0.55mm); Voltage - Rated: 50V
footprint CAP 0402_1005
pins: 1, 2

## UVK105CH0R6BW-F
designator C?, comment 0.6pF
CAP CER 0.6PF 50V C0H 0402; Part Number: UVK105CH0R6BW-F; Manufacturer: Taiyo Yuden; Tolerance: ±0.1pF; Value: 0.6pF; Applications: RF, Microwave, High Frequency; Capacitance: 0.6pF; ComponentLink1Description: Datasheet; ComponentLink1URL: https://www.yuden.co.jp/productdata/catalog/mlcc04_e.pdf; ComponentLink2Description: DigiKey Link; ComponentLink2URL: http://digikey.com/product-detail/en/taiyo-yuden/UVK105CH0R6BW-F/587-1003-1-ND/930780; Device Package: 0402 (1005 Metric); Features: High Q, Low Loss; LastUpdated: 9/2/2020 1:02:23 AM; Lifecycle Status: Active; Minimum Order: 1; Mounting Type: Surface Mount, MLCC; Operating Temperature: -55°C ~ 125°C; Package / Case: 0402 (1005 Metric); Packaging: TapeAndReel; PartId: 2346; Part Status: Active; Price: 0.03; Series: UVK; Size / Dimension: 0.039" L x 0.020" W (1.00mm x 0.50mm); Supplier 1: DigiKey; Supplier Part Number 1: 587-1003-1-ND; Temperature Coefficient: C0H; Thickness (Max): 0.022" (0.55mm); Voltage - Rated: 50V
footprint CAP 0402_1005
pins: 1, 2

## UVK105CH0R7BW-F
designator C?, comment 0.7pF
CAP CER 0.7PF 50V C0H 0402; Part Number: UVK105CH0R7BW-F; Manufacturer: Taiyo Yuden; Tolerance: ±0.1pF; Value: 0.7pF; Applications: RF, Microwave, High Frequency; Capacitance: 0.7pF; ComponentLink1Description: Datasheet; ComponentLink1URL: https://www.yuden.co.jp/productdata/catalog/mlcc04_e.pdf; ComponentLink2Description: DigiKey Link; ComponentLink2URL: http://digikey.com/product-detail/en/taiyo-yuden/UVK105CH0R7BW-F/587-1004-1-ND/930781; Device Package: 0402 (1005 Metric); Features: High Q, Low Loss; LastUpdated: 9/2/2020 1:02:23 AM; Lifecycle Status: Active; Minimum Order: 1; Mounting Type: Surface Mount, MLCC; Operating Temperature: -55°C ~ 125°C; Package / Case: 0402 (1005 Metric); Packaging: TapeAndReel; PartId: 2337; Part Status: Active; Price: 0.03; Series: UVK; Size / Dimension: 0.039" L x 0.020" W (1.00mm x 0.50mm); Supplier 1: DigiKey; Supplier Part Number 1: 587-1004-1-ND; Temperature Coefficient: C0H; Thickness (Max): 0.022" (0.55mm); Voltage - Rated: 50V
footprint CAP 0402_1005
pins: 1, 2

## UVK105CH0R8BW-F
designator C?, comment 0.8pF
CAP CER 0.8PF 50V C0H 0402; Part Number: UVK105CH0R8BW-F; Manufacturer: Taiyo Yuden; Tolerance: ±0.1pF; Value: 0.8pF; Applications: RF, Microwave, High Frequency; Capacitance: 0.8pF; ComponentLink1Description: Datasheet; ComponentLink1URL: https://www.yuden.co.jp/productdata/catalog/mlcc04_e.pdf; ComponentLink2Description: DigiKey Link; ComponentLink2URL: http://digikey.com/product-detail/en/taiyo-yuden/UVK105CH0R8BW-F/587-1005-1-ND/930782; Device Package: 0402 (1005 Metric); Features: High Q, Low Loss; LastUpdated: 9/2/2020 1:02:06 AM; Lifecycle Status: Active; Minimum Order: 1; Mounting Type: Surface Mount, MLCC; Operating Temperature: -55°C ~ 125°C; Package / Case: 0402 (1005 Metric); Packaging: TapeAndReel; PartId: 9829; Part Status: Active; Price: 0.03; Series: UVK; Size / Dimension: 0.039" L x 0.020" W (1.00mm x 0.50mm); Supplier 1: DigiKey; Supplier Part Number 1: 587-1005-1-ND; Temperature Coefficient: C0H; Thickness (Max): 0.022" (0.55mm); Voltage - Rated: 50V
footprint CAP 0402_1005
pins: 1, 2

## UVK105CH1R1BW-F
designator C?, comment 1.1pF
CAP CER 1.1PF 50V C0H 0402; Part Number: UVK105CH1R1BW-F; Manufacturer: Taiyo Yuden; Tolerance: ±0.1pF; Value: 1.1pF; Applications: RF, Microwave, High Frequency; Capacitance: 1.1pF; ComponentLink1Description: Datasheet; ComponentLink1URL: https://www.yuden.co.jp/productdata/catalog/mlcc04_e.pdf; ComponentLink2Description: DigiKey Link; ComponentLink2URL: http://digikey.com/product-detail/en/taiyo-yuden/UVK105CH1R1BW-F/587-1008-1-ND/930785; Device Package: 0402 (1005 Metric); Features: High Q, Low Loss; LastUpdated: 9/2/2020 1:02:14 AM; Lifecycle Status: Active; Minimum Order: 1; Mounting Type: Surface Mount, MLCC; Operating Temperature: -55°C ~ 125°C; Package / Case: 0402 (1005 Metric); Packaging: TapeAndReel; PartId: 6502; Part Status: Active; Price: 0.03; Series: UVK; Size / Dimension: 0.039" L x 0.020" W (1.00mm x 0.50mm); Supplier 1: DigiKey; Supplier Part Number 1: 587-1008-1-ND; Temperature Coefficient: C0H; Thickness (Max): 0.022" (0.55mm); Voltage - Rated: 50V
footprint CAP 0402_1005
pins: 1, 2

## UVK105CH1R2BW-F
designator C?, comment 1.2pF
CAP CER 1.2PF 50V C0H 0402; Part Number: UVK105CH1R2BW-F; Manufacturer: Taiyo Yuden; Tolerance: ±0.1pF; Value: 1.2pF; Applications: RF, Microwave, High Frequency; Capacitance: 1.2pF; ComponentLink1Description: Datasheet; ComponentLink1URL: https://www.yuden.co.jp/productdata/catalog/mlcc04_e.pdf; ComponentLink2Description: DigiKey Link; ComponentLink2URL: http://digikey.com/product-detail/en/taiyo-yuden/UVK105CH1R2BW-F/587-1009-1-ND/930786; Device Package: 0402 (1005 Metric); Features: High Q, Low Loss; LastUpdated: 9/2/2020 1:02:14 AM; Lifecycle Status: Active; Minimum Order: 1; Mounting Type: Surface Mount, MLCC; Operating Temperature: -55°C ~ 125°C; Package / Case: 0402 (1005 Metric); Packaging: TapeAndReel; PartId: 6499; Part Status: Active; Price: 0.03; Series: UVK; Size / Dimension: 0.039" L x 0.020" W (1.00mm x 0.50mm); Supplier 1: DigiKey; Supplier Part Number 1: 587-1009-1-ND; Temperature Coefficient: C0H; Thickness (Max): 0.022" (0.55mm); Voltage - Rated: 50V
footprint CAP 0402_1005
pins: 1, 2

## UVK105CH1R3BW-F
designator C?, comment 1.3pF
CAP CER 1.3PF 50V C0H 0402; Part Number: UVK105CH1R3BW-F; Manufacturer: Taiyo Yuden; Tolerance: ±0.1pF; Value: 1.3pF; Applications: RF, Microwave, High Frequency; Capacitance: 1.3pF; ComponentLink1Description: Datasheet; ComponentLink1URL: https://www.yuden.co.jp/productdata/catalog/mlcc04_e.pdf; ComponentLink2Description: DigiKey Link; ComponentLink2URL: http://digikey.com/product-detail/en/taiyo-yuden/UVK105CH1R3BW-F/587-1010-1-ND/930787; Device Package: 0402 (1005 Metric); Features: High Q, Low Loss; LastUpdated: 9/2/2020 1:02:23 AM; Lifecycle Status: Active; Minimum Order: 1; Mounting Type: Surface Mount, MLCC; Operating Temperature: -55°C ~ 125°C; Package / Case: 0402 (1005 Metric); Packaging: TapeAndReel; PartId: 2339; Part Status: Active; Price: 0.03; Series: UVK; Size / Dimension: 0.039" L x 0.020" W (1.00mm x 0.50mm); Supplier 1: DigiKey; Supplier Part Number 1: 587-1010-1-ND; Temperature Coefficient: C0H; Thickness (Max): 0.022" (0.55mm); Voltage - Rated: 50V
footprint CAP 0402_1005
pins: 1, 2

## UVK105CH1R5BW-F
designator C?, comment 1.5pF
CAP CER 1.5PF 50V C0H 0402; Part Number: UVK105CH1R5BW-F; Manufacturer: Taiyo Yuden; Tolerance: ±0.1pF; Value: 1.5pF; Applications: RF, Microwave, High Frequency; Capacitance: 1.5pF; ComponentLink1Description: Datasheet; ComponentLink1URL: https://www.yuden.co.jp/productdata/catalog/mlcc04_e.pdf; ComponentLink2Description: DigiKey Link; ComponentLink2URL: http://digikey.com/product-detail/en/taiyo-yuden/UVK105CH1R5BW-F/587-1011-1-ND/930788; Device Package: 0402 (1005 Metric); Features: High Q, Low Loss; LastUpdated: 9/2/2020 1:02:13 AM; Lifecycle Status: Active; Minimum Order: 1; Mounting Type: Surface Mount, MLCC; Operating Temperature: -55°C ~ 125°C; Package / Case: 0402 (1005 Metric); Packaging: TapeAndReel; PartId: 6905; Part Status: Active; Price: 0.03; Series: UVK; Size / Dimension: 0.039" L x 0.020" W (1.00mm x 0.50mm); Supplier 1: DigiKey; Supplier Part Number 1: 587-1011-1-ND; Temperature Coefficient: C0H; Thickness (Max): 0.022" (0.55mm); Voltage - Rated: 50V
footprint CAP 0402_1005
pins: 1, 2

## UVK105CH1R6BW-F
designator C?, comment 1.6pF
CAP CER 1.6PF 50V C0H 0402; Part Number: UVK105CH1R6BW-F; Manufacturer: Taiyo Yuden; Tolerance: ±0.1pF; Value: 1.6pF; Applications: RF, Microwave, High Frequency; Capacitance: 1.6pF; ComponentLink1Description: Datasheet; ComponentLink1URL: https://www.yuden.co.jp/productdata/catalog/mlcc04_e.pdf; ComponentLink2Description: DigiKey Link; ComponentLink2URL: http://digikey.com/product-detail/en/taiyo-yuden/UVK105CH1R6BW-F/587-1012-1-ND/930789; Device Package: 0402 (1005 Metric); Features: High Q, Low Loss; LastUpdated: 9/2/2020 1:02:23 AM; Lifecycle Status: Active; Minimum Order: 1; Mounting Type: Surface Mount, MLCC; Operating Temperature: -55°C ~ 125°C; Package / Case: 0402 (1005 Metric); Packaging: TapeAndReel; PartId: 2348; Part Status: Active; Price: 0.03; Series: UVK; Size / Dimension: 0.039" L x 0.020" W (1.00mm x 0.50mm); Supplier 1: DigiKey; Supplier Part Number 1: 587-1012-1-ND; Temperature Coefficient: C0H; Thickness (Max): 0.022" (0.55mm); Voltage - Rated: 50V
footprint CAP 0402_1005
pins: 1, 2

## UVK105CH1R8BW-F
designator C?, comment 1.8pF
CAP CER 1.8PF 50V C0H 0402; Part Number: UVK105CH1R8BW-F; Manufacturer: Taiyo Yuden; Tolerance: ±0.1pF; Value: 1.8pF; Applications: RF, Microwave, High Frequency; Capacitance: 1.8pF; ComponentLink1Description: Datasheet; ComponentLink1URL: https://www.yuden.co.jp/productdata/catalog/mlcc04_e.pdf; ComponentLink2Description: DigiKey Link; ComponentLink2URL: http://digikey.com/product-detail/en/taiyo-yuden/UVK105CH1R8BW-F/587-1013-1-ND/930790; Device Package: 0402 (1005 Metric); Features: High Q, Low Loss; LastUpdated: 9/2/2020 1:02:23 AM; Lifecycle Status: Active; Minimum Order: 1; Mounting Type: Surface Mount, MLCC; Operating Temperature: -55°C ~ 125°C; Package / Case: 0402 (1005 Metric); Packaging: TapeAndReel; PartId: 2350; Part Status: Active; Price: 0.03; Series: UVK; Size / Dimension: 0.039" L x 0.020" W (1.00mm x 0.50mm); Supplier 1: DigiKey; Supplier Part Number 1: 587-1013-1-ND; Temperature Coefficient: C0H; Thickness (Max): 0.022" (0.55mm); Voltage - Rated: 50V
footprint CAP 0402_1005
pins: 1, 2

## UVK105CH2R2JW-F
designator C?, comment 2.2pF
CAP CER 2.2PF 50V C0H 0402; Part Number: UVK105CH2R2JW-F; Manufacturer: Taiyo Yuden; Tolerance: ±5%; Value: 2.2pF; Applications: RF, Microwave, High Frequency; Capacitance: 2.2pF; ComponentLink1Description: Datasheet; ComponentLink1URL: https://www.yuden.co.jp/productdata/catalog/mlcc04_e.pdf; ComponentLink2Description: DigiKey Link; ComponentLink2URL: http://digikey.com/product-detail/en/taiyo-yuden/UVK105CH2R2JW-F/587-1015-1-ND/930792; Device Package: 0402 (1005 Metric); Features: High Q, Low Loss; LastUpdated: 9/2/2020 1:02:23 AM; Lifecycle Status: Active; Minimum Order: 1; Mounting Type: Surface Mount, MLCC; Operating Temperature: -55°C ~ 125°C; Package / Case: 0402 (1005 Metric); Packaging: TapeAndReel; PartId: 2341; Part Status: Active; Price: 0.03; Series: UVK; Size / Dimension: 0.039" L x 0.020" W (1.00mm x 0.50mm); Supplier 1: DigiKey; Supplier Part Number 1: 587-1015-1-ND; Temperature Coefficient: C0H; Thickness (Max): 0.022" (0.55mm); Voltage - Rated: 50V
footprint CAP 0402_1005
pins: 1, 2

## UVK105CH2R4JW-F
designator C?, comment 2.4pF
CAP CER 2.4PF 50V C0H 0402; Part Number: UVK105CH2R4JW-F; Manufacturer: Taiyo Yuden; Tolerance: ±5%; Value: 2.4pF; Applications: RF, Microwave, High Frequency; Capacitance: 2.4pF; ComponentLink1Description: Datasheet; ComponentLink1URL: https://www.yuden.co.jp/productdata/catalog/mlcc04_e.pdf; ComponentLink2Description: DigiKey Link; ComponentLink2URL: http://digikey.com/product-detail/en/taiyo-yuden/UVK105CH2R4JW-F/587-1016-1-ND/930793; Device Package: 0402 (1005 Metric); Features: High Q, Low Loss; LastUpdated: 9/2/2020 1:02:23 AM; Lifecycle Status: Active; Minimum Order: 1; Mounting Type: Surface Mount, MLCC; Operating Temperature: -55°C ~ 125°C; Package / Case: 0402 (1005 Metric); Packaging: TapeAndReel; PartId: 2354; Part Status: Active; Price: 0.03; Series: UVK; Size / Dimension: 0.039" L x 0.020" W (1.00mm x 0.50mm); Supplier 1: DigiKey; Supplier Part Number 1: 587-1016-1-ND; Temperature Coefficient: C0H; Thickness (Max): 0.022" (0.55mm); Voltage - Rated: 50V
footprint CAP 0402_1005
pins: 1, 2

## UVK105CH2R7JW-F
designator C?, comment 2.7pF
CAP CER 2.7PF 50V C0H 0402; Part Number: UVK105CH2R7JW-F; Manufacturer: Taiyo Yuden; Tolerance: ±5%; Value: 2.7pF; Applications: RF, Microwave, High Frequency; Capacitance: 2.7pF; ComponentLink1Description: Datasheet; ComponentLink1URL: https://www.yuden.co.jp/productdata/catalog/mlcc04_e.pdf; ComponentLink2Description: DigiKey Link; ComponentLink2URL: http://digikey.com/product-detail/en/taiyo-yuden/UVK105CH2R7JW-F/587-1017-1-ND/930794; Device Package: 0402 (1005 Metric); Features: High Q, Low Loss; LastUpdated: 9/2/2020 1:01:15 AM; Lifecycle Status: Active; Minimum Order: 1; Mounting Type: Surface Mount, MLCC; Operating Temperature: -55°C ~ 125°C; Package / Case: 0402 (1005 Metric); Packaging: TapeAndReel; PartId: 13408; Part Status: Active; Price: 0.03; Series: UVK; Size / Dimension: 0.039" L x 0.020" W (1.00mm x 0.50mm); Supplier 1: DigiKey; Supplier Part Number 1: 587-1017-1-ND; Temperature Coefficient: C0H; Thickness (Max): 0.022" (0.55mm); Voltage - Rated: 50V
footprint CAP 0402_1005
pins: 1, 2

## UVK105CH3R3JW-F
designator C?, comment 3.3pF
CAP CER 3.3PF 50V C0H 0402; Part Number: UVK105CH3R3JW-F; Manufacturer: Taiyo Yuden; Tolerance: ±5%; Value: 3.3pF; Applications: RF, Microwave, High Frequency; Capacitance: 3.3pF; ComponentLink1Description: Datasheet; ComponentLink1URL: https://www.yuden.co.jp/productdata/catalog/mlcc04_e.pdf; ComponentLink2Description: DigiKey Link; ComponentLink2URL: http://digikey.com/product-detail/en/taiyo-yuden/UVK105CH3R3JW-F/587-1019-1-ND/930796; Device Package: 0402 (1005 Metric); Features: High Q, Low Loss; LastUpdated: 9/2/2020 1:02:23 AM; Lifecycle Status: Active; Minimum Order: 1; Mounting Type: Surface Mount, MLCC; Operating Temperature: -55°C ~ 125°C; Package / Case: 0402 (1005 Metric); Packaging: TapeAndReel; PartId: 2358; Part Status: Active; Price: 0.03; Series: UVK; Size / Dimension: 0.039" L x 0.020" W (1.00mm x 0.50mm); Supplier 1: DigiKey; Supplier Part Number 1: 587-1019-1-ND; Temperature Coefficient: C0H; Thickness (Max): 0.022" (0.55mm); Voltage - Rated: 50V
footprint CAP 0402_1005
pins: 1, 2

## UVK105CH3R6JW-F
designator C?, comment 3.6pF
CAP CER 3.6PF 50V C0H 0402; Part Number: UVK105CH3R6JW-F; Manufacturer: Taiyo Yuden; Tolerance: ±5%; Value: 3.6pF; Applications: RF, Microwave, High Frequency; Capacitance: 3.6pF; ComponentLink1Description: Datasheet; ComponentLink1URL: https://www.yuden.co.jp/productdata/catalog/mlcc04_e.pdf; ComponentLink2Description: DigiKey Link; ComponentLink2URL: http://digikey.com/product-detail/en/taiyo-yuden/UVK105CH3R6JW-F/587-1020-1-ND/930797; Device Package: 0402 (1005 Metric); Features: High Q, Low Loss; LastUpdated: 9/2/2020 1:02:13 AM; Lifecycle Status: Active; Minimum Order: 1; Mounting Type: Surface Mount, MLCC; Operating Temperature: -55°C ~ 125°C; Package / Case: 0402 (1005 Metric); Packaging: TapeAndReel; PartId: 6916; Part Status: Active; Price: 0.03; Series: UVK; Size / Dimension: 0.039" L x 0.020" W (1.00mm x 0.50mm); Supplier 1: DigiKey; Supplier Part Number 1: 587-1020-1-ND; Temperature Coefficient: C0H; Thickness (Max): 0.022" (0.55mm); Voltage - Rated: 50V
footprint CAP 0402_1005
pins: 1, 2

## UVK105CH3R9JW-F
designator C?, comment 3.9pF
CAP CER 3.9PF 50V C0H 0402; Part Number: UVK105CH3R9JW-F; Manufacturer: Taiyo Yuden; Tolerance: ±5%; Value: 3.9pF; Applications: RF, Microwave, High Frequency; Capacitance: 3.9pF; ComponentLink1Description: Datasheet; ComponentLink1URL: https://www.yuden.co.jp/productdata/catalog/mlcc04_e.pdf; ComponentLink2Description: DigiKey Link; ComponentLink2URL: http://digikey.com/product-detail/en/taiyo-yuden/UVK105CH3R9JW-F/587-1021-1-ND/930798; Device Package: 0402 (1005 Metric); Features: High Q, Low Loss; LastUpdated: 9/2/2020 1:02:14 AM; Lifecycle Status: Active; Minimum Order: 1; Mounting Type: Surface Mount, MLCC; Operating Temperature: -55°C ~ 125°C; Package / Case: 0402 (1005 Metric); Packaging: TapeAndReel; PartId: 6494; Part Status: Active; Price: 0.03; Series: UVK; Size / Dimension: 0.039" L x 0.020" W (1.00mm x 0.50mm); Supplier 1: DigiKey; Supplier Part Number 1: 587-1021-1-ND; Temperature Coefficient: C0H; Thickness (Max): 0.022" (0.55mm); Voltage - Rated: 50V
footprint CAP 0402_1005
pins: 1, 2